# Altium schematic symbol library 六脚二极管.SchLib: 1 symbol
Pins are listed as number, name and electrical type; pins without a type are passive.

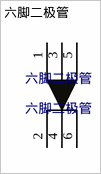
[diagram p0: symbol 六脚二极管]

## 六脚二极管
designator 六脚二极管
footprint LED 5050 (5050LED)
pins: 1 0, 2 3, 3 1, 4, 5 2, 6 5